# Altium footprint library Blib.PcbLib: 6 footprints
Each footprint in its own frame and in the unit in brackets; x right, y up, seen from the top. Pads: shape width x height; smd on the part's side, far side on the other; paste and mask are expansions set on the pad; w line width, h text height; cw(c..) or ccw(c..) is an arc to the next point about the centre after c.
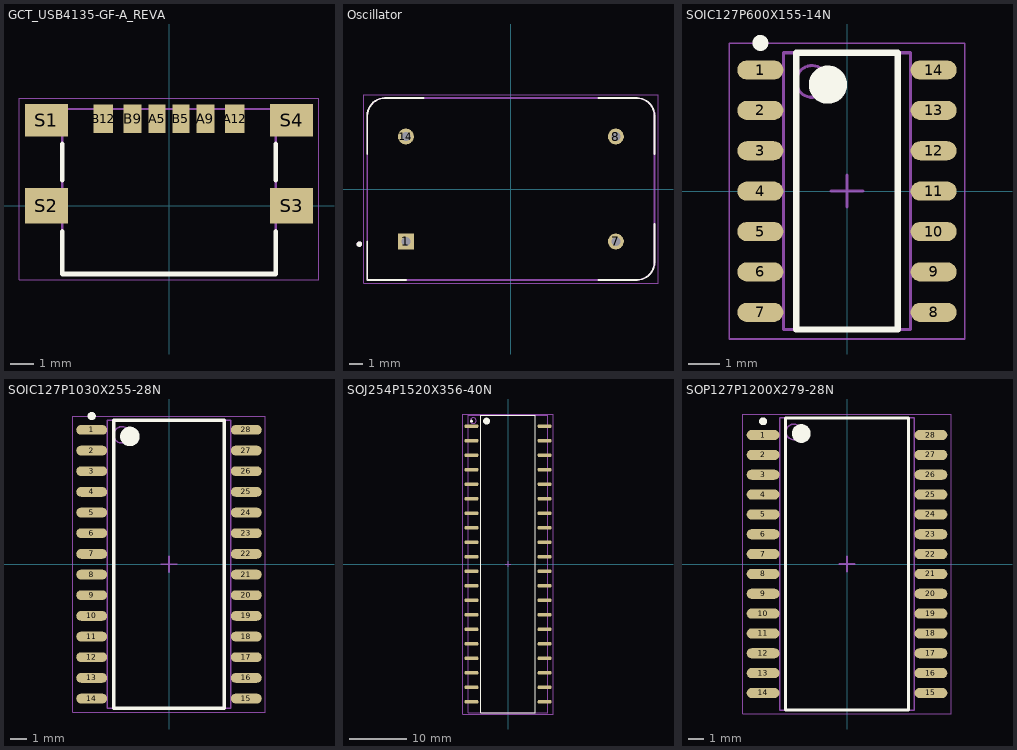
[diagram p0: the footprints below, top view; thin cyan lines are the x and y axes]

## GCT_USB4135-GF-A_REVA [mm]
height 3.25
pads (10):
  rect 0.7x1.2 smd: A5(-0.5,3.635) B5(0.5,3.635)
  rect 0.76x1.2 smd: A9(1.52,3.635) B9(-1.52,3.635)
  rect 0.8x1.2 smd: A12(2.75,3.635) B12(-2.75,3.635)
  rect 1.8x1.35 smd: S1(-5.125,3.58) S4(5.125,3.58)
  rect 1.8x1.5 smd: S2(-5.125,0) S3(5.125,0)
Top Overlay:
  lines w0.2: -4.47,-1.07 -4.47,-2.85 4.47,-2.85 4.47,-1.07 ; -4.47,1.07 -4.47,2.585 ; 4.47,1.07 4.47,2.585
Mechanical 13:
  lines w0.1: -4.47,-2.85 4.47,-2.85 4.47,4.05 -4.47,4.05 -4.47,-2.85
Mechanical 15:
  lines w0.05: -6.275,-3.1 6.275,-3.1 6.275,4.505 -6.275,4.505 -6.275,-3.1
3D body "step_temp.STEP": height 3.25, standoff 0, extent -5.57,-2.85 5.57,4.05

## Oscillator [mm] "Crystal Oscillator Clock 1MHZ"
pads (4):
  rect 1.158x1.158 hole 0.65: 1(-7.62,-3.81)
  round 1.158 hole 0.65: 7(7.62,-3.81) 8(7.62,3.81) 14(-7.62,3.81)
Top Overlay:
  circle w0.2: c-11,-4 r0.1
  lines w0.127: -10.43,-3.81 -10.43,-6.6 -7.62,-6.6 ; -10.43,2.54 -10.43,5.3 ; -10.43,5.31 cw(c-9.14,5.31) -9.14,6.6 ; -9.15,6.6 -6.35,6.6 ; 6.35,-6.6 9.15,-6.6 ; 6.35,6.6 9.15,6.6 ; 9.14,-6.6 ccw(c9.14,-5.31) 10.43,-5.31 ; 9.14,6.6 cw(c9.14,5.31) 10.43,5.31 ; 10.43,-5.3 10.43,-2.54 ; 10.43,2.54 10.43,5.3
Mechanical 13:
  circle w0.2: c-11,-4 r0.1
  lines w0.127: -10.43,5.293 cw(c-9.145,5.315) -9.167,6.6 ; -10.43,5.3 -10.43,-6.6 9.16,-6.6 ; -9.16,6.6 9.16,6.6 ; 9.167,-6.6 ccw(c9.145,-5.315) 10.43,-5.293 ; 9.167,6.6 cw(c9.145,5.315) 10.43,5.293 ; 10.43,-5.3 10.43,5.3
Mechanical 15:
  lines w0.05: -10.68,-6.85 10.68,-6.85 10.68,6.85 -10.68,6.85 -10.68,-6.85
3D body "ECS-100AX-040--3DModel-STEP-1.STEP": height 5.09, standoff -7.34, extent -10.43,-6.6 10.43,6.6

## SOIC127P600X155-14N [mm] "SOIC, 14-Leads, Body 8.62x3.90mm, Pitch 1.27mm, IPC Medium Density"
height 1.55
pads (14):
  oval 1.45x0.6 smd: 1(-2.725,3.81) 2(-2.725,2.54) 3(-2.725,1.27) 4(-2.725,0) 5(-2.725,-1.27) 6(-2.725,-2.54) 7(-2.725,-3.81) 8(2.725,-3.81) 9(2.725,-2.54) 10(2.725,-1.27) 11(2.725,0) 12(2.725,1.27) 13(2.725,2.54) 14(2.725,3.81)
Top Overlay:
  circle w0.25: c-2.725,4.66 r0.125
  circle w0.6: c-0.6,3.35 r0.3
  lines w0.2: -1.6,-4.35 -1.6,4.35 1.6,4.35 1.6,-4.35 -1.6,-4.35
Mechanical 13:
  circle w0.1: c-1.1,3.45 r0.5
  lines w0.1: -2,-4.35 -2,4.35 2,4.35 2,-4.35 -2,-4.35
Mechanical 15:
  lines w0.05: -3.7,-4.65 -3.7,4.65 3.7,4.65 3.7,-4.65 -3.7,-4.65
  lines w0.1: -0.5,0 0.5,0 ; 0,-0.5 0,0.5
3D body "SOIC127P600X155-14N.step": height 1.55, standoff 0, extent -2.997,-4.35 2.997,4.35

## SOIC127P1030X255-28N [mm] "SOIC, 28-Leads, Body 17.90x7.50mm, Pitch 1.27mm, IPC Medium Density"
height 2.55
pads (28):
  oval 1.9x0.6 smd: 1(-4.75,8.255) 2(-4.75,6.985) 3(-4.75,5.715) 4(-4.75,4.445) 5(-4.75,3.175) 6(-4.75,1.905) 7(-4.75,0.635) 8(-4.75,-0.635) 9(-4.75,-1.905) 10(-4.75,-3.175) 11(-4.75,-4.445) 12(-4.75,-5.715) 13(-4.75,-6.985) 14(-4.75,-8.255) 15(4.75,-8.255) 16(4.75,-6.985) 17(4.75,-5.715) 18(4.75,-4.445) 19(4.75,-3.175) 20(4.75,-1.905) 21(4.75,-0.635) 22(4.75,0.635) 23(4.75,1.905) 24(4.75,3.175) 25(4.75,4.445) 26(4.75,5.715) 27(4.75,6.985) 28(4.75,8.255)
Top Overlay:
  circle w0.25: c-4.75,9.105 r0.125
  circle w0.6: c-2.4,7.85 r0.3
  lines w0.2: -3.4,-8.85 -3.4,8.85 3.4,8.85 3.4,-8.85 -3.4,-8.85
Mechanical 13:
  circle w0.1: c-2.9,7.95 r0.5
  lines w0.1: -3.8,-8.85 -3.8,8.85 3.8,8.85 3.8,-8.85 -3.8,-8.85
Mechanical 15:
  lines w0.05: -5.925,-9.1 -5.925,9.1 5.925,9.1 5.925,-9.1 -5.925,-9.1
  lines w0.1: -0.5,0 0.5,0 ; 0,-0.5 0,0.5
3D body "SOIC127P1030X255-28N.step": height 2.55, standoff 0, extent -5.162,-8.85 5.162,8.85

## SOJ254P1520X356-40N [mm] "SOJ, 40-Leads, Body 52.00x15.17mm, Pitch 2.54mm, IPC Medium Density"
height 3.56
pads (40):
  oval 2.5x0.65 smd: 1(-6.4,24.13) 2(-6.4,21.59) 3(-6.4,19.05) 4(-6.4,16.51) 5(-6.4,13.97) 6(-6.4,11.43) 7(-6.4,8.89) 8(-6.4,6.35) 9(-6.4,3.81) 10(-6.4,1.27) 11(-6.4,-1.27) 12(-6.4,-3.81) 13(-6.4,-6.35) 14(-6.4,-8.89) 15(-6.4,-11.43) 16(-6.4,-13.97) 17(-6.4,-16.51) 18(-6.4,-19.05) 19(-6.4,-21.59) 20(-6.4,-24.13) 21(6.4,-24.13) 22(6.4,-21.59) 23(6.4,-19.05) 24(6.4,-16.51) 25(6.4,-13.97) 26(6.4,-11.43) 27(6.4,-8.89) 28(6.4,-6.35) 29(6.4,-3.81) 30(6.4,-1.27) 31(6.4,1.27) 32(6.4,3.81) 33(6.4,6.35) 34(6.4,8.89) 35(6.4,11.43) 36(6.4,13.97) 37(6.4,16.51) 38(6.4,19.05) 39(6.4,21.59) 40(6.4,24.13)
Top Overlay:
  circle w0.6: c-3.75,25 r0.3
  circle w0.25: c-6.4,25.005 r0.125
  lines w0.2: -4.75,-26 4.75,-26 4.75,26 -4.75,26 -4.75,-26
Mechanical 13:
  circle w0.1: c-6.075,25.1 r0.5
  lines w0.1: -6.975,-26 6.975,-26 6.975,26 -6.975,26 -6.975,-26
Mechanical 15:
  lines w0.05: -7.9,-26.25 7.9,-26.25 7.9,26.25 -7.9,26.25 -7.9,-26.25
  lines w0.1: -0.5,0 0.5,0 ; 0,-0.5 0,0.5
3D body "SOJ254P1520X356-40N.step": height 3.56, standoff 0.01, extent -7.785,-26 7.785,26

## SOP127P1200X279-28N [mm] "SOP, 28-Leads, Body 18.49x8.48mm, Pitch 1.27mm, IPC Medium Density"
height 2.79
pads (28):
  oval 2.1x0.65 smd: 1(-5.375,8.255) 2(-5.375,6.985) 3(-5.375,5.715) 4(-5.375,4.445) 5(-5.375,3.175) 6(-5.375,1.905) 7(-5.375,0.635) 8(-5.375,-0.635) 9(-5.375,-1.905) 10(-5.375,-3.175) 11(-5.375,-4.445) 12(-5.375,-5.715) 13(-5.375,-6.985) 14(-5.375,-8.255) 15(5.375,-8.255) 16(5.375,-6.985) 17(5.375,-5.715) 18(5.375,-4.445) 19(5.375,-3.175) 20(5.375,-1.905) 21(5.375,-0.635) 22(5.375,0.635) 23(5.375,1.905) 24(5.375,3.175) 25(5.375,4.445) 26(5.375,5.715) 27(5.375,6.985) 28(5.375,8.255)
Top Overlay:
  circle w0.25: c-5.375,9.13 r0.125
  circle w0.6: c-2.925,8.35 r0.3
  lines w0.2: -3.925,-9.35 -3.925,9.35 3.925,9.35 3.925,-9.35 -3.925,-9.35
Mechanical 13:
  circle w0.1: c-3.4,8.45 r0.5
  lines w0.1: -4.3,-9.35 -4.3,9.35 4.3,9.35 4.3,-9.35 -4.3,-9.35
Mechanical 15:
  lines w0.05: -6.675,-9.6 -6.675,9.6 6.675,9.6 6.675,-9.6 -6.675,-9.6
  lines w0.1: -0.5,0 0.5,0 ; 0,-0.5 0,0.5
3D body "SOP127P1200X279-28N.step": height 2.79, standoff 0, extent -5.985,-9.35 5.985,9.35